# Altium footprint library 排针-排母.PcbLib: 177 footprints (part 6 of 12)
Each footprint in its own frame and in the unit in brackets; x right, y up, seen from the top. Pads: shape width x height; smd on the part's side, far side on the other; paste and mask are expansions set on the pad; w line width, h text height; cw(c..) or ccw(c..) is an arc to the next point about the centre after c.
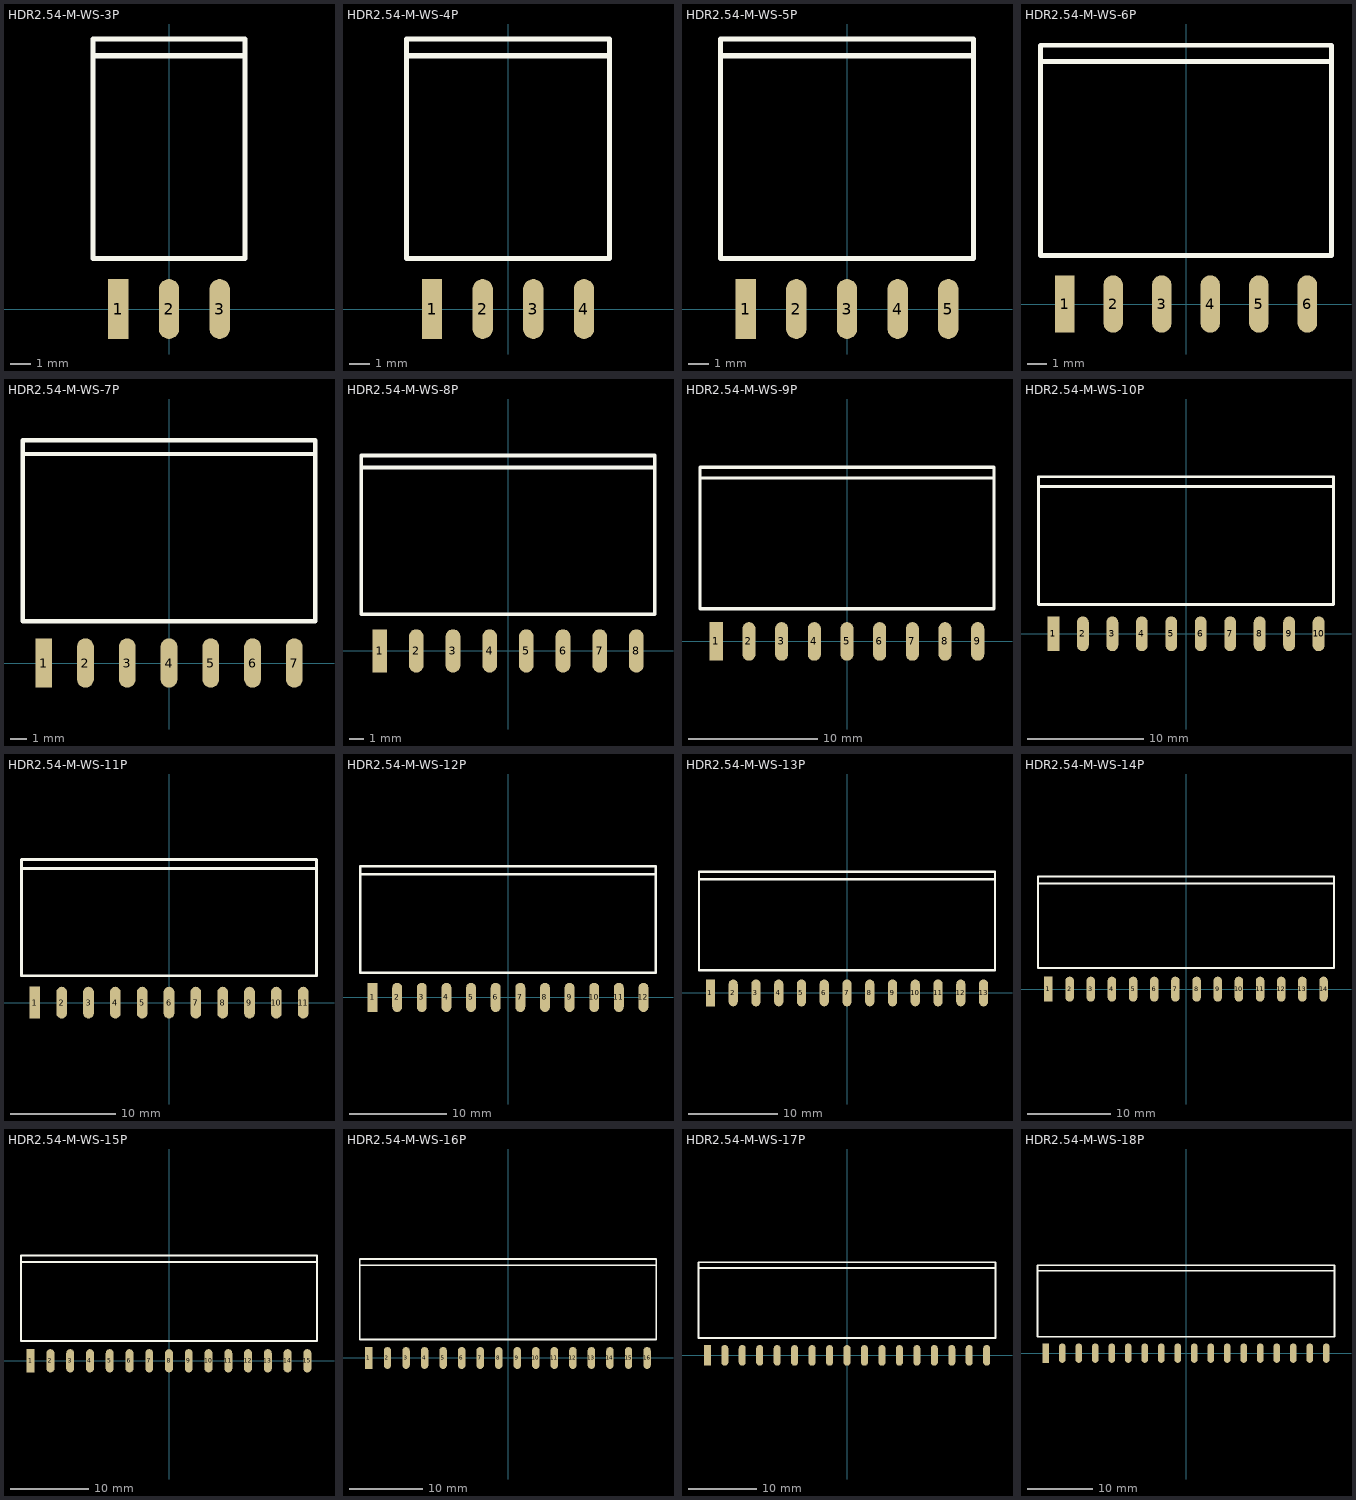
[diagram p5: the footprints below, top view; thin cyan lines are the x and y axes]

## HDR2.54-M-WS-3P [mm] "3P卧式贴片排母2.54"
pads (3):
  rect 1.02x3 smd: 1(-2.54,0)
  oval 1.02x3 smd: 2(0,0) 3(2.54,0)
Top Overlay:
  lines w0.254: -3.81,12.7 -1.27,12.7 1.27,12.7 3.81,12.7 ; -3.81,2.54 -3.81,13.54 -1.27,13.54 1.27,13.54 3.81,13.54 3.81,2.54 1.27,2.54 -1.27,2.54 -3.81,2.54
3D body: height 2.54, standoff -0.01, extent 1.27,-0.43 3.81,13.54
3D body: height 2.54, standoff -0.01, extent -1.27,-0.43 1.27,13.54
3D body: height 2.54, standoff -0.01, extent -3.81,-0.43 -1.27,13.54

## HDR2.54-M-WS-4P [mm] "4P卧式贴片排母2.54"
pads (4):
  rect 1.02x3 smd: 1(-3.81,0)
  oval 1.02x3 smd: 2(-1.27,0) 3(1.27,0) 4(3.81,0)
Top Overlay:
  lines w0.254: -5.08,12.7 -2.54,12.7 0,12.7 2.54,12.7 5.08,12.7 ; -5.08,2.54 -5.08,13.54 -2.54,13.54 0,13.54 2.54,13.54 5.08,13.54 5.08,2.54 2.54,2.54 0,2.54 -2.54,2.54 -5.08,2.54
3D body: height 2.54, standoff -0.01, extent 2.54,-0.43 5.08,13.54
3D body: height 2.54, standoff -0.01, extent 0,-0.43 2.54,13.54
3D body: height 2.54, standoff -0.01, extent -2.54,-0.43 0,13.54
3D body: height 2.54, standoff -0.01, extent -5.08,-0.43 -2.54,13.54

## HDR2.54-M-WS-5P [mm] "5P卧式贴片排母2.54"
pads (5):
  rect 1.02x3 smd: 1(-5.08,0)
  oval 1.02x3 smd: 2(-2.54,0) 3(0,0) 4(2.54,0) 5(5.08,0)
Top Overlay:
  lines w0.254: -6.35,12.7 -3.81,12.7 -1.27,12.7 1.27,12.7 3.81,12.7 6.35,12.7 ; -6.35,2.54 -6.35,13.54 -3.81,13.54 -1.27,13.54 1.27,13.54 3.81,13.54 6.35,13.54 6.35,2.54 3.81,2.54 1.27,2.54 -1.27,2.54 -3.81,2.54 -6.35,2.54
3D body: height 2.54, standoff -0.01, extent 3.81,-0.43 6.35,13.54
3D body: height 2.54, standoff -0.01, extent 1.27,-0.43 3.81,13.54
3D body: height 2.54, standoff -0.01, extent -1.27,-0.43 1.27,13.54
3D body: height 2.54, standoff -0.01, extent -3.81,-0.43 -1.27,13.54
3D body: height 2.54, standoff -0.01, extent -6.35,-0.43 -3.81,13.54

## HDR2.54-M-WS-6P [mm] "6P卧式贴片排母2.54"
pads (6):
  rect 1.02x3 smd: 1(-6.35,0)
  oval 1.02x3 smd: 2(-3.81,0) 3(-1.27,0) 4(1.27,0) 5(3.81,0) 6(6.35,0)
Top Overlay:
  lines w0.254: -7.62,12.7 -5.08,12.7 -2.54,12.7 0,12.7 2.54,12.7 5.08,12.7 7.62,12.7 ; -7.62,2.54 -5.08,2.54 -2.54,2.54 0,2.54 2.54,2.54 5.08,2.54 7.62,2.54 7.62,13.54 5.08,13.54 2.54,13.54 0,13.54 -2.54,13.54 -5.08,13.54 -7.62,13.54 -7.62,2.54
3D body: height 2.54, standoff -0.01, extent -7.62,-0.43 -5.08,13.54
3D body: height 2.54, standoff -0.01, extent -5.08,-0.43 -2.54,13.54
3D body: height 2.54, standoff -0.01, extent -2.54,-0.43 0,13.54
3D body: height 2.54, standoff -0.01, extent 0,-0.43 2.54,13.54
3D body: height 2.54, standoff -0.01, extent 2.54,-0.43 5.08,13.54
3D body: height 2.54, standoff -0.01, extent 5.08,-0.43 7.62,13.54

## HDR2.54-M-WS-7P [mm] "7P卧式贴片排母2.54"
pads (7):
  rect 1.02x3 smd: 1(-7.62,0)
  oval 1.02x3 smd: 2(-5.08,0) 3(-2.54,0) 4(0,0) 5(2.54,0) 6(5.08,0) 7(7.62,0)
Top Overlay:
  lines w0.254: -8.89,12.7 -6.35,12.7 -3.81,12.7 -1.27,12.7 1.27,12.7 3.81,12.7 6.35,12.7 8.89,12.7 ; -8.89,2.54 -8.89,13.54 -6.35,13.54 -3.81,13.54 -1.27,13.54 1.27,13.54 3.81,13.54 6.35,13.54 8.89,13.54 8.89,2.54 6.35,2.54 3.81,2.54 1.27,2.54 -1.27,2.54 -3.81,2.54 -6.35,2.54 -8.89,2.54
3D body: height 2.54, standoff -0.01, extent 6.35,-0.43 8.89,13.54
3D body: height 2.54, standoff -0.01, extent 3.81,-0.43 6.35,13.54
3D body: height 2.54, standoff -0.01, extent 1.27,-0.43 3.81,13.54
3D body: height 2.54, standoff -0.01, extent -1.27,-0.43 1.27,13.54
3D body: height 2.54, standoff -0.01, extent -3.81,-0.43 -1.27,13.54
3D body: height 2.54, standoff -0.01, extent -6.35,-0.43 -3.81,13.54
3D body: height 2.54, standoff -0.01, extent -8.89,-0.43 -6.35,13.54

## HDR2.54-M-WS-8P [mm] "8P卧式贴片排母2.54"
pads (8):
  rect 1.02x3 smd: 1(-8.89,0)
  oval 1.02x3 smd: 2(-6.35,0) 3(-3.81,0) 4(-1.27,0) 5(1.27,0) 6(3.81,0) 7(6.35,0) 8(8.89,0)
Top Overlay:
  lines w0.254: -10.16,12.7 -7.62,12.7 -5.08,12.7 -2.54,12.7 0,12.7 2.54,12.7 5.08,12.7 7.62,12.7 10.16,12.7 ; -10.16,2.54 -7.62,2.54 -5.08,2.54 -2.54,2.54 0,2.54 2.54,2.54 5.08,2.54 7.62,2.54 10.16,2.54 10.16,13.54 7.62,13.54 5.08,13.54 2.54,13.54 0,13.54 -2.54,13.54 -5.08,13.54 -7.62,13.54 -10.16,13.54 -10.16,2.54
3D body: height 2.54, standoff -0.01, extent 7.62,-0.43 10.16,13.54
3D body: height 2.54, standoff -0.01, extent -10.16,-0.43 -7.62,13.54
3D body: height 2.54, standoff -0.01, extent -7.62,-0.43 -5.08,13.54
3D body: height 2.54, standoff -0.01, extent -5.08,-0.43 -2.54,13.54
3D body: height 2.54, standoff -0.01, extent -2.54,-0.43 0,13.54
3D body: height 2.54, standoff -0.01, extent 0,-0.43 2.54,13.54
3D body: height 2.54, standoff -0.01, extent 2.54,-0.43 5.08,13.54
3D body: height 2.54, standoff -0.01, extent 5.08,-0.43 7.62,13.54

## HDR2.54-M-WS-9P [mm] "9P卧式贴片排母2.54"
pads (9):
  rect 1.02x3 smd: 1(-10.16,0)
  oval 1.02x3 smd: 2(-7.62,0) 3(-5.08,0) 4(-2.54,0) 5(0,0) 6(2.54,0) 7(5.08,0) 8(7.62,0) 9(10.16,0)
Top Overlay:
  lines w0.254: -11.43,12.7 -8.89,12.7 -6.35,12.7 -3.81,12.7 -1.27,12.7 1.27,12.7 3.81,12.7 6.35,12.7 8.89,12.7 11.43,12.7 ; -11.43,2.54 -8.89,2.54 -6.35,2.54 -3.81,2.54 -1.27,2.54 1.27,2.54 3.81,2.54 6.35,2.54 8.89,2.54 11.43,2.54 11.43,13.54 8.89,13.54 6.35,13.54 3.81,13.54 1.27,13.54 -1.27,13.54 -3.81,13.54 -6.35,13.54 -8.89,13.54 -11.43,13.54 -11.43,2.54
3D body: height 2.54, standoff -0.01, extent 8.89,-0.43 11.43,13.54
3D body: height 2.54, standoff -0.01, extent 6.35,-0.43 8.89,13.54
3D body: height 2.54, standoff -0.01, extent -11.43,-0.43 -8.89,13.54
3D body: height 2.54, standoff -0.01, extent -8.89,-0.43 -6.35,13.54
3D body: height 2.54, standoff -0.01, extent -6.35,-0.43 -3.81,13.54
3D body: height 2.54, standoff -0.01, extent -3.81,-0.43 -1.27,13.54
3D body: height 2.54, standoff -0.01, extent -1.27,-0.43 1.27,13.54
3D body: height 2.54, standoff -0.01, extent 1.27,-0.43 3.81,13.54
3D body: height 2.54, standoff -0.01, extent 3.81,-0.43 6.35,13.54

## HDR2.54-M-WS-10P [mm] "10P卧式贴片排母2.54"
pads (10):
  rect 1.02x3 smd: 1(-11.43,0)
  oval 1.02x3 smd: 2(-8.89,0) 3(-6.35,0) 4(-3.81,0) 5(-1.27,0) 6(1.27,0) 7(3.81,0) 8(6.35,0) 9(8.89,0) 10(11.43,0)
Top Overlay:
  lines w0.254: -12.7,12.7 -10.16,12.7 -7.62,12.7 -5.08,12.7 -2.54,12.7 0,12.7 2.54,12.7 5.08,12.7 7.62,12.7 10.16,12.7 12.7,12.7 ; -12.7,2.54 -10.16,2.54 -7.62,2.54 -5.08,2.54 -2.54,2.54 0,2.54 2.54,2.54 5.08,2.54 7.62,2.54 10.16,2.54 12.7,2.54 12.7,13.54 10.16,13.54 7.62,13.54 5.08,13.54 2.54,13.54 0,13.54 -2.54,13.54 -5.08,13.54 -7.62,13.54 -10.16,13.54 -12.7,13.54 -12.7,2.54
3D body: height 2.54, standoff -0.01, extent 10.16,-0.43 12.7,13.54
3D body: height 2.54, standoff -0.01, extent 7.62,-0.43 10.16,13.54
3D body: height 2.54, standoff -0.01, extent 5.08,-0.43 7.62,13.54
3D body: height 2.54, standoff -0.01, extent -12.7,-0.43 -10.16,13.54
3D body: height 2.54, standoff -0.01, extent -10.16,-0.43 -7.62,13.54
3D body: height 2.54, standoff -0.01, extent -7.62,-0.43 -5.08,13.54
3D body: height 2.54, standoff -0.01, extent -5.08,-0.43 -2.54,13.54
3D body: height 2.54, standoff -0.01, extent -2.54,-0.43 0,13.54
3D body: height 2.54, standoff -0.01, extent 0,-0.43 2.54,13.54
3D body: height 2.54, standoff -0.01, extent 2.54,-0.43 5.08,13.54

## HDR2.54-M-WS-11P [mm] "11P卧式贴片排母2.54"
pads (11):
  rect 1.02x3 smd: 1(-12.7,0)
  oval 1.02x3 smd: 2(-10.16,0) 3(-7.62,0) 4(-5.08,0) 5(-2.54,0) 6(0,0) 7(2.54,0) 8(5.08,0) 9(7.62,0) 10(10.16,0) 11(12.7,0)
Top Overlay:
  lines w0.254: -13.97,12.7 -11.43,12.7 -8.89,12.7 -6.35,12.7 -3.81,12.7 -1.27,12.7 1.27,12.7 3.81,12.7 6.35,12.7 8.89,12.7 11.43,12.7 13.97,12.7 ; -13.97,2.54 -11.43,2.54 -8.89,2.54 -6.35,2.54 -3.81,2.54 -1.27,2.54 1.27,2.54 3.81,2.54 6.35,2.54 8.89,2.54 11.43,2.54 13.97,2.54 13.97,13.54 11.43,13.54 8.89,13.54 6.35,13.54 3.81,13.54 1.27,13.54 -1.27,13.54 -3.81,13.54 -6.35,13.54 -8.89,13.54 -11.43,13.54 -13.97,13.54 -13.97,2.54
3D body: height 2.54, standoff -0.01, extent 11.43,-0.43 13.97,13.54
3D body: height 2.54, standoff -0.01, extent 8.89,-0.43 11.43,13.54
3D body: height 2.54, standoff -0.01, extent 6.35,-0.43 8.89,13.54
3D body: height 2.54, standoff -0.01, extent 3.81,-0.43 6.35,13.54
3D body: height 2.54, standoff -0.01, extent -13.97,-0.43 -11.43,13.54
3D body: height 2.54, standoff -0.01, extent -11.43,-0.43 -8.89,13.54
3D body: height 2.54, standoff -0.01, extent -8.89,-0.43 -6.35,13.54
3D body: height 2.54, standoff -0.01, extent -6.35,-0.43 -3.81,13.54
3D body: height 2.54, standoff -0.01, extent -3.81,-0.43 -1.27,13.54
3D body: height 2.54, standoff -0.01, extent -1.27,-0.43 1.27,13.54
3D body: height 2.54, standoff -0.01, extent 1.27,-0.43 3.81,13.54

## HDR2.54-M-WS-12P [mm] "12P卧式贴片排母2.54"
pads (12):
  rect 1.02x3 smd: 1(-13.97,0)
  oval 1.02x3 smd: 2(-11.43,0) 3(-8.89,0) 4(-6.35,0) 5(-3.81,0) 6(-1.27,0) 7(1.27,0) 8(3.81,0) 9(6.35,0) 10(8.89,0) 11(11.43,0) 12(13.97,0)
Top Overlay:
  lines w0.254: -15.24,12.7 -12.7,12.7 -10.16,12.7 -7.62,12.7 -5.08,12.7 -2.54,12.7 0,12.7 2.54,12.7 5.08,12.7 7.62,12.7 10.16,12.7 12.7,12.7 15.24,12.7 ; -15.24,2.54 -12.7,2.54 -10.16,2.54 -7.62,2.54 -5.08,2.54 -2.54,2.54 0,2.54 2.54,2.54 5.08,2.54 7.62,2.54 10.16,2.54 12.7,2.54 15.24,2.54 15.24,13.54 12.7,13.54 10.16,13.54 7.62,13.54 5.08,13.54 2.54,13.54 0,13.54 -2.54,13.54 -5.08,13.54 -7.62,13.54 -10.16,13.54 -12.7,13.54 -15.24,13.54 -15.24,2.54
3D body: height 2.54, standoff -0.01, extent 12.7,-0.43 15.24,13.54
3D body: height 2.54, standoff -0.01, extent 10.16,-0.43 12.7,13.54
3D body: height 2.54, standoff -0.01, extent 7.62,-0.43 10.16,13.54
3D body: height 2.54, standoff -0.01, extent 5.08,-0.43 7.62,13.54
3D body: height 2.54, standoff -0.01, extent 2.54,-0.43 5.08,13.54
3D body: height 2.54, standoff -0.01, extent -15.24,-0.43 -12.7,13.54
3D body: height 2.54, standoff -0.01, extent -12.7,-0.43 -10.16,13.54
3D body: height 2.54, standoff -0.01, extent -10.16,-0.43 -7.62,13.54
3D body: height 2.54, standoff -0.01, extent -7.62,-0.43 -5.08,13.54
3D body: height 2.54, standoff -0.01, extent -5.08,-0.43 -2.54,13.54
3D body: height 2.54, standoff -0.01, extent -2.54,-0.43 0,13.54
3D body: height 2.54, standoff -0.01, extent 0,-0.43 2.54,13.54

## HDR2.54-M-WS-13P [mm] "13P卧式贴片排母2.54"
pads (13):
  rect 1.02x3 smd: 1(-15.24,0)
  oval 1.02x3 smd: 2(-12.7,0) 3(-10.16,0) 4(-7.62,0) 5(-5.08,0) 6(-2.54,0) 7(0,0) 8(2.54,0) 9(5.08,0) 10(7.62,0) 11(10.16,0) 12(12.7,0) 13(15.24,0)
Top Overlay:
  lines w0.254: -16.51,12.7 -13.97,12.7 -11.43,12.7 -8.89,12.7 -6.35,12.7 -3.81,12.7 -1.27,12.7 1.27,12.7 3.81,12.7 6.35,12.7 8.89,12.7 11.43,12.7 13.97,12.7 16.51,12.7 ; -16.51,2.54 -13.97,2.54 -11.43,2.54 -8.89,2.54 -6.35,2.54 -3.81,2.54 -1.27,2.54 1.27,2.54 3.81,2.54 6.35,2.54 8.89,2.54 11.43,2.54 13.97,2.54 16.51,2.54 16.51,13.54 13.97,13.54 11.43,13.54 8.89,13.54 6.35,13.54 3.81,13.54 1.27,13.54 -1.27,13.54 -3.81,13.54 -6.35,13.54 -8.89,13.54 -11.43,13.54 -13.97,13.54 -16.51,13.54 -16.51,2.54
3D body: height 2.54, standoff -0.01, extent 13.97,-0.43 16.51,13.54
3D body: height 2.54, standoff -0.01, extent 11.43,-0.43 13.97,13.54
3D body: height 2.54, standoff -0.01, extent 8.89,-0.43 11.43,13.54
3D body: height 2.54, standoff -0.01, extent 6.35,-0.43 8.89,13.54
3D body: height 2.54, standoff -0.01, extent 3.81,-0.43 6.35,13.54
3D body: height 2.54, standoff -0.01, extent 1.27,-0.43 3.81,13.54
3D body: height 2.54, standoff -0.01, extent -16.51,-0.43 -13.97,13.54
3D body: height 2.54, standoff -0.01, extent -13.97,-0.43 -11.43,13.54
3D body: height 2.54, standoff -0.01, extent -11.43,-0.43 -8.89,13.54
3D body: height 2.54, standoff -0.01, extent -8.89,-0.43 -6.35,13.54
3D body: height 2.54, standoff -0.01, extent -6.35,-0.43 -3.81,13.54
3D body: height 2.54, standoff -0.01, extent -3.81,-0.43 -1.27,13.54
3D body: height 2.54, standoff -0.01, extent -1.27,-0.43 1.27,13.54

## HDR2.54-M-WS-14P [mm] "14P卧式贴片排母2.54"
pads (14):
  rect 1.02x3 smd: 1(-16.51,0)
  oval 1.02x3 smd: 2(-13.97,0) 3(-11.43,0) 4(-8.89,0) 5(-6.35,0) 6(-3.81,0) 7(-1.27,0) 8(1.27,0) 9(3.81,0) 10(6.35,0) 11(8.89,0) 12(11.43,0) 13(13.97,0) 14(16.51,0)
Top Overlay:
  lines w0.254: -17.78,12.7 -15.24,12.7 -12.7,12.7 -10.16,12.7 -7.62,12.7 -5.08,12.7 -2.54,12.7 0,12.7 2.54,12.7 5.08,12.7 7.62,12.7 10.16,12.7 12.7,12.7 15.24,12.7 17.78,12.7 ; -17.78,2.54 -17.78,13.54 -15.24,13.54 -12.7,13.54 -10.16,13.54 -7.62,13.54 -5.08,13.54 -2.54,13.54 0,13.54 2.54,13.54 5.08,13.54 7.62,13.54 10.16,13.54 12.7,13.54 15.24,13.54 17.78,13.54 17.78,2.54 15.24,2.54 12.7,2.54 10.16,2.54 7.62,2.54 5.08,2.54 2.54,2.54 0,2.54 -2.54,2.54 -5.08,2.54 -7.62,2.54 -10.16,2.54 -12.7,2.54 -15.24,2.54 -17.78,2.54
3D body: height 2.54, standoff -0.01, extent -2.54,-0.43 0,13.54
3D body: height 2.54, standoff -0.01, extent -5.08,-0.43 -2.54,13.54
3D body: height 2.54, standoff -0.01, extent -7.62,-0.43 -5.08,13.54
3D body: height 2.54, standoff -0.01, extent -10.16,-0.43 -7.62,13.54
3D body: height 2.54, standoff -0.01, extent -12.7,-0.43 -10.16,13.54
3D body: height 2.54, standoff -0.01, extent -15.24,-0.43 -12.7,13.54
3D body: height 2.54, standoff -0.01, extent -17.78,-0.43 -15.24,13.54
3D body: height 2.54, standoff -0.01, extent 0,-0.43 2.54,13.54
3D body: height 2.54, standoff -0.01, extent 2.54,-0.43 5.08,13.54
3D body: height 2.54, standoff -0.01, extent 5.08,-0.43 7.62,13.54
3D body: height 2.54, standoff -0.01, extent 7.62,-0.43 10.16,13.54
3D body: height 2.54, standoff -0.01, extent 10.16,-0.43 12.7,13.54
3D body: height 2.54, standoff -0.01, extent 12.7,-0.43 15.24,13.54
3D body: height 2.54, standoff -0.01, extent 15.24,-0.43 17.78,13.54

## HDR2.54-M-WS-15P [mm] "15P卧式贴片排母2.54"
pads (15):
  rect 1.02x3 smd: 1(-17.78,0)
  oval 1.02x3 smd: 2(-15.24,0) 3(-12.7,0) 4(-10.16,0) 5(-7.62,0) 6(-5.08,0) 7(-2.54,0) 8(0,0) 9(2.54,0) 10(5.08,0) 11(7.62,0) 12(10.16,0) 13(12.7,0) 14(15.24,0) 15(17.78,0)
Top Overlay:
  lines w0.254: -19.05,12.7 -16.51,12.7 -13.97,12.7 -11.43,12.7 -8.89,12.7 -6.35,12.7 -3.81,12.7 -1.27,12.7 1.27,12.7 3.81,12.7 6.35,12.7 8.89,12.7 11.43,12.7 13.97,12.7 16.51,12.7 19.05,12.7 ; -19.05,2.54 -16.51,2.54 -13.97,2.54 -11.43,2.54 -8.89,2.54 -6.35,2.54 -3.81,2.54 -1.27,2.54 1.27,2.54 3.81,2.54 6.35,2.54 8.89,2.54 11.43,2.54 13.97,2.54 16.51,2.54 19.05,2.54 19.05,13.54 16.51,13.54 13.97,13.54 11.43,13.54 8.89,13.54 6.35,13.54 3.81,13.54 1.27,13.54 -1.27,13.54 -3.81,13.54 -6.35,13.54 -8.89,13.54 -11.43,13.54 -13.97,13.54 -16.51,13.54 -19.05,13.54 -19.05,2.54
3D body: height 2.54, standoff -0.01, extent 16.51,-0.43 19.05,13.54
3D body: height 2.54, standoff -0.01, extent 13.97,-0.43 16.51,13.54
3D body: height 2.54, standoff -0.01, extent 11.43,-0.43 13.97,13.54
3D body: height 2.54, standoff -0.01, extent 8.89,-0.43 11.43,13.54
3D body: height 2.54, standoff -0.01, extent 6.35,-0.43 8.89,13.54
3D body: height 2.54, standoff -0.01, extent 3.81,-0.43 6.35,13.54
3D body: height 2.54, standoff -0.01, extent 1.27,-0.43 3.81,13.54
3D body: height 2.54, standoff -0.01, extent -1.27,-0.43 1.27,13.54
3D body: height 2.54, standoff -0.01, extent -19.05,-0.43 -16.51,13.54
3D body: height 2.54, standoff -0.01, extent -16.51,-0.43 -13.97,13.54
3D body: height 2.54, standoff -0.01, extent -13.97,-0.43 -11.43,13.54
3D body: height 2.54, standoff -0.01, extent -11.43,-0.43 -8.89,13.54
3D body: height 2.54, standoff -0.01, extent -8.89,-0.43 -6.35,13.54
3D body: height 2.54, standoff -0.01, extent -6.35,-0.43 -3.81,13.54
3D body: height 2.54, standoff -0.01, extent -3.81,-0.43 -1.27,13.54

## HDR2.54-M-WS-16P [mm] "16P卧式贴片排母2.54"
pads (16):
  rect 1.02x3 smd: 1(-19.05,0)
  oval 1.02x3 smd: 2(-16.51,0) 3(-13.97,0) 4(-11.43,0) 5(-8.89,0) 6(-6.35,0) 7(-3.81,0) 8(-1.27,0) 9(1.27,0) 10(3.81,0) 11(6.35,0) 12(8.89,0) 13(11.43,0) 14(13.97,0) 15(16.51,0) 16(19.05,0)
Top Overlay:
  lines w0.254: -20.32,12.7 -17.78,12.7 -15.24,12.7 -12.7,12.7 -10.16,12.7 -7.62,12.7 -5.08,12.7 -2.54,12.7 0,12.7 2.54,12.7 5.08,12.7 7.62,12.7 10.16,12.7 12.7,12.7 15.24,12.7 17.78,12.7 20.32,12.7 ; -20.32,2.54 -17.78,2.54 -15.24,2.54 -12.7,2.54 -10.16,2.54 -7.62,2.54 -5.08,2.54 -2.54,2.54 0,2.54 2.54,2.54 5.08,2.54 7.62,2.54 10.16,2.54 12.7,2.54 15.24,2.54 17.78,2.54 20.32,2.54 20.32,13.54 17.78,13.54 15.24,13.54 12.7,13.54 10.16,13.54 7.62,13.54 5.08,13.54 2.54,13.54 0,13.54 -2.54,13.54 -5.08,13.54 -7.62,13.54 -10.16,13.54 -12.7,13.54 -15.24,13.54 -17.78,13.54 -20.32,13.54 -20.32,2.54
3D body: height 2.54, standoff -0.01, extent 17.78,-0.43 20.32,13.54
3D body: height 2.54, standoff -0.01, extent 15.24,-0.43 17.78,13.54
3D body: height 2.54, standoff -0.01, extent 12.7,-0.43 15.24,13.54
3D body: height 2.54, standoff -0.01, extent 10.16,-0.43 12.7,13.54
3D body: height 2.54, standoff -0.01, extent 7.62,-0.43 10.16,13.54
3D body: height 2.54, standoff -0.01, extent 5.08,-0.43 7.62,13.54
3D body: height 2.54, standoff -0.01, extent 2.54,-0.43 5.08,13.54
3D body: height 2.54, standoff -0.01, extent 0,-0.43 2.54,13.54
3D body: height 2.54, standoff -0.01, extent -2.54,-0.43 0,13.54
3D body: height 2.54, standoff -0.01, extent -20.32,-0.43 -17.78,13.54
3D body: height 2.54, standoff -0.01, extent -17.78,-0.43 -15.24,13.54
3D body: height 2.54, standoff -0.01, extent -15.24,-0.43 -12.7,13.54
3D body: height 2.54, standoff -0.01, extent -12.7,-0.43 -10.16,13.54
3D body: height 2.54, standoff -0.01, extent -10.16,-0.43 -7.62,13.54
3D body: height 2.54, standoff -0.01, extent -7.62,-0.43 -5.08,13.54
3D body: height 2.54, standoff -0.01, extent -5.08,-0.43 -2.54,13.54

## HDR2.54-M-WS-17P [mm] "17P卧式贴片排母2.54"
pads (17):
  rect 1.02x3 smd: 1(-20.32,0)
  oval 1.02x3 smd: 2(-17.78,0) 3(-15.24,0) 4(-12.7,0) 5(-10.16,0) 6(-7.62,0) 7(-5.08,0) 8(-2.54,0) 9(0,0) 10(2.54,0) 11(5.08,0) 12(7.62,0) 13(10.16,0) 14(12.7,0) 15(15.24,0) 16(17.78,0) 17(20.32,0)
Top Overlay:
  lines w0.254: -21.59,12.7 -19.05,12.7 -16.51,12.7 -13.97,12.7 -11.43,12.7 -8.89,12.7 -6.35,12.7 -3.81,12.7 -1.27,12.7 1.27,12.7 3.81,12.7 6.35,12.7 8.89,12.7 11.43,12.7 13.97,12.7 16.51,12.7 19.05,12.7 21.59,12.7 ; -21.59,2.54 -19.05,2.54 -16.51,2.54 -13.97,2.54 -11.43,2.54 -8.89,2.54 -6.35,2.54 -3.81,2.54 -1.27,2.54 1.27,2.54 3.81,2.54 6.35,2.54 8.89,2.54 11.43,2.54 13.97,2.54 16.51,2.54 19.05,2.54 21.59,2.54 21.59,13.54 19.05,13.54 16.51,13.54 13.97,13.54 11.43,13.54 8.89,13.54 6.35,13.54 3.81,13.54 1.27,13.54 -1.27,13.54 -3.81,13.54 -6.35,13.54 -8.89,13.54 -11.43,13.54 -13.97,13.54 -16.51,13.54 -19.05,13.54 -21.59,13.54 -21.59,2.54
3D body: height 2.54, standoff -0.01, extent 19.05,-0.43 21.59,13.54
3D body: height 2.54, standoff -0.01, extent 16.51,-0.43 19.05,13.54
3D body: height 2.54, standoff -0.01, extent 13.97,-0.43 16.51,13.54
3D body: height 2.54, standoff -0.01, extent 11.43,-0.43 13.97,13.54
3D body: height 2.54, standoff -0.01, extent 8.89,-0.43 11.43,13.54
3D body: height 2.54, standoff -0.01, extent 6.35,-0.43 8.89,13.54
3D body: height 2.54, standoff -0.01, extent 3.81,-0.43 6.35,13.54
3D body: height 2.54, standoff -0.01, extent 1.27,-0.43 3.81,13.54
3D body: height 2.54, standoff -0.01, extent -1.27,-0.43 1.27,13.54
3D body: height 2.54, standoff -0.01, extent -3.81,-0.43 -1.27,13.54
3D body: height 2.54, standoff -0.01, extent -21.59,-0.43 -19.05,13.54
3D body: height 2.54, standoff -0.01, extent -19.05,-0.43 -16.51,13.54
3D body: height 2.54, standoff -0.01, extent -16.51,-0.43 -13.97,13.54
3D body: height 2.54, standoff -0.01, extent -13.97,-0.43 -11.43,13.54
3D body: height 2.54, standoff -0.01, extent -11.43,-0.43 -8.89,13.54
3D body: height 2.54, standoff -0.01, extent -8.89,-0.43 -6.35,13.54
3D body: height 2.54, standoff -0.01, extent -6.35,-0.43 -3.81,13.54

## HDR2.54-M-WS-18P [mm] "18P卧式贴片排母2.54"
pads (18):
  rect 1.02x3 smd: 1(-21.59,0)
  oval 1.02x3 smd: 2(-19.05,0) 3(-16.51,0) 4(-13.97,0) 5(-11.43,0) 6(-8.89,0) 7(-6.35,0) 8(-3.81,0) 9(-1.27,0) 10(1.27,0) 11(3.81,0) 12(6.35,0) 13(8.89,0) 14(11.43,0) 15(13.97,0) 16(16.51,0) 17(19.05,0) 18(21.59,0)
Top Overlay:
  lines w0.254: -22.86,12.7 -20.32,12.7 -17.78,12.7 -15.24,12.7 -12.7,12.7 -10.16,12.7 -7.62,12.7 -5.08,12.7 -2.54,12.7 0,12.7 2.54,12.7 5.08,12.7 7.62,12.7 10.16,12.7 12.7,12.7 15.24,12.7 17.78,12.7 20.32,12.7 22.86,12.7 ; -22.86,2.54 -20.32,2.54 -17.78,2.54 -15.24,2.54 -12.7,2.54 -10.16,2.54 -7.62,2.54 -5.08,2.54 -2.54,2.54 0,2.54 2.54,2.54 5.08,2.54 7.62,2.54 10.16,2.54 12.7,2.54 15.24,2.54 17.78,2.54 20.32,2.54 22.86,2.54 22.86,13.54 20.32,13.54 17.78,13.54 15.24,13.54 12.7,13.54 10.16,13.54 7.62,13.54 5.08,13.54 2.54,13.54 0,13.54 -2.54,13.54 -5.08,13.54 -7.62,13.54 -10.16,13.54 -12.7,13.54 -15.24,13.54 -17.78,13.54 -20.32,13.54 -22.86,13.54 -22.86,2.54
3D body: height 2.54, standoff -0.01, extent 20.32,-0.43 22.86,13.54
3D body: height 2.54, standoff -0.01, extent 17.78,-0.43 20.32,13.54
3D body: height 2.54, standoff -0.01, extent 15.24,-0.43 17.78,13.54
3D body: height 2.54, standoff -0.01, extent 12.7,-0.43 15.24,13.54
3D body: height 2.54, standoff -0.01, extent 10.16,-0.43 12.7,13.54
3D body: height 2.54, standoff -0.01, extent 7.62,-0.43 10.16,13.54
3D body: height 2.54, standoff -0.01, extent 5.08,-0.43 7.62,13.54
3D body: height 2.54, standoff -0.01, extent 2.54,-0.43 5.08,13.54
3D body: height 2.54, standoff -0.01, extent 0,-0.43 2.54,13.54
3D body: height 2.54, standoff -0.01, extent -2.54,-0.43 0,13.54
3D body: height 2.54, standoff -0.01, extent -5.08,-0.43 -2.54,13.54
3D body: height 2.54, standoff -0.01, extent -22.86,-0.43 -20.32,13.54
3D body: height 2.54, standoff -0.01, extent -20.32,-0.43 -17.78,13.54
3D body: height 2.54, standoff -0.01, extent -17.78,-0.43 -15.24,13.54
3D body: height 2.54, standoff -0.01, extent -15.24,-0.43 -12.7,13.54
3D body: height 2.54, standoff -0.01, extent -12.7,-0.43 -10.16,13.54
3D body: height 2.54, standoff -0.01, extent -10.16,-0.43 -7.62,13.54
3D body: height 2.54, standoff -0.01, extent -7.62,-0.43 -5.08,13.54